# EAGLE library part VR_2AXIS (library akita)
2axis VR, joystick
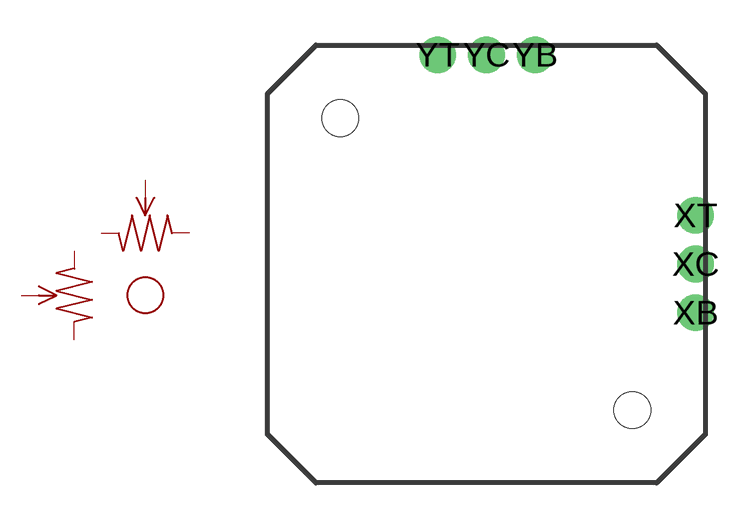
[diagram p167: symbol with the pads of VR_JT8P; footprint VR_JT8P]

Designator prefix R

## VR_2AXIS  [VR_JT8P]
XB  XB
XC  XC
XT  XT
YB  YB
YC  YC
YT  YT

## Footprint VR_JT8P (pad centres in mm)
2axis joystick, TOP-UP, JT8P-3.2T-B10K-1-16Y
drill 1: XB 8.6,-2; XC 8.6,0; XT 8.6,2; YB 2,8.6; YC 0,8.6; YT -2,8.6
hole 1.5 at -6,6
hole 1.5 at 6,-6